# EAGLE library part WE-LAN_1000_BASETX_749020013 (library Wuerth_Elektronik_eiSos_Version_6-12)
LAN-Transformer WE-LAN 1000 Base Tx - Compliant with IEEE 802.3 standards - SMD -- Ethernet -- Power over Ethernet -- 1 Gigabit Ethernet -- Compliant with most IC's for ethernet applications like Intel, AMD, Globespan and Realtek -- Hub, Router, Switch
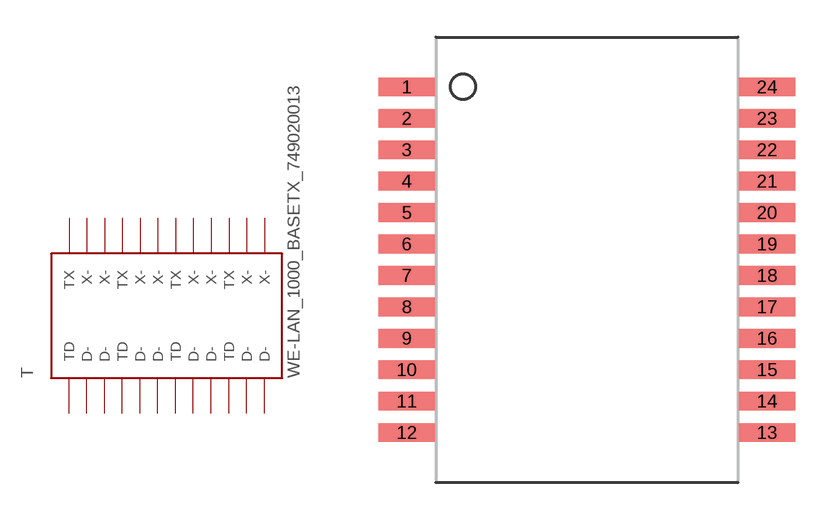
[diagram p29: symbol with the pads of WE-LAN_1000_BASETX_749020013; footprint WE-LAN_1000_BASETX_749020013]

Designator prefix T

## WE-LAN_1000_BASETX_749020013  [WE-LAN_1000_BASETX_749020013]
1  TD  pas
2  D-  pas
3  D-  pas
4  TD  pas
5  D-  pas
6  D-  pas
7  TD  pas
8  D-  pas
9  D-  pas
10  TD  pas
11  D-  pas
12  D-  pas
13  X-  pas
14  X-  pas
15  TX  pas
16  X-  pas
17  X-  pas
18  TX  pas
19  X-  pas
20  X-  pas
21  TX  pas
22  X-  pas
23  X-  pas
24  TX  pas

## Footprint WE-LAN_1000_BASETX_749020013 (pad centres in mm)
WE-LAN 1000 BaseTx
smd 2.29 x 0.76: 1 -7.28,6.985; 2 -7.28,5.715; 3 -7.28,4.445; 4 -7.28,3.175; 5 -7.28,1.905; 6 -7.28,0.635; 7 -7.28,-0.635; 8 -7.28,-1.905; 9 -7.28,-3.175; 10 -7.28,-4.445; 11 -7.28,-5.715; 12 -7.28,-6.985; 13 7.28,-6.985; 14 7.28,-5.715; 15 7.28,-4.445; 16 7.28,-3.175; 17 7.28,-1.905; 18 7.28,-0.635; 19 7.28,0.635; 20 7.28,1.905; 21 7.28,3.175; 22 7.28,4.445; 23 7.28,5.715; 24 7.28,6.985